# Altium footprint library TjsADLib.PcbLib: 50 footprints (part 2 of 4)
Each footprint in its own frame and in the unit in brackets; x right, y up, seen from the top. Pads: shape width x height; smd on the part's side, far side on the other; paste and mask are expansions set on the pad; w line width, h text height; cw(c..) or ccw(c..) is an arc to the next point about the centre after c.
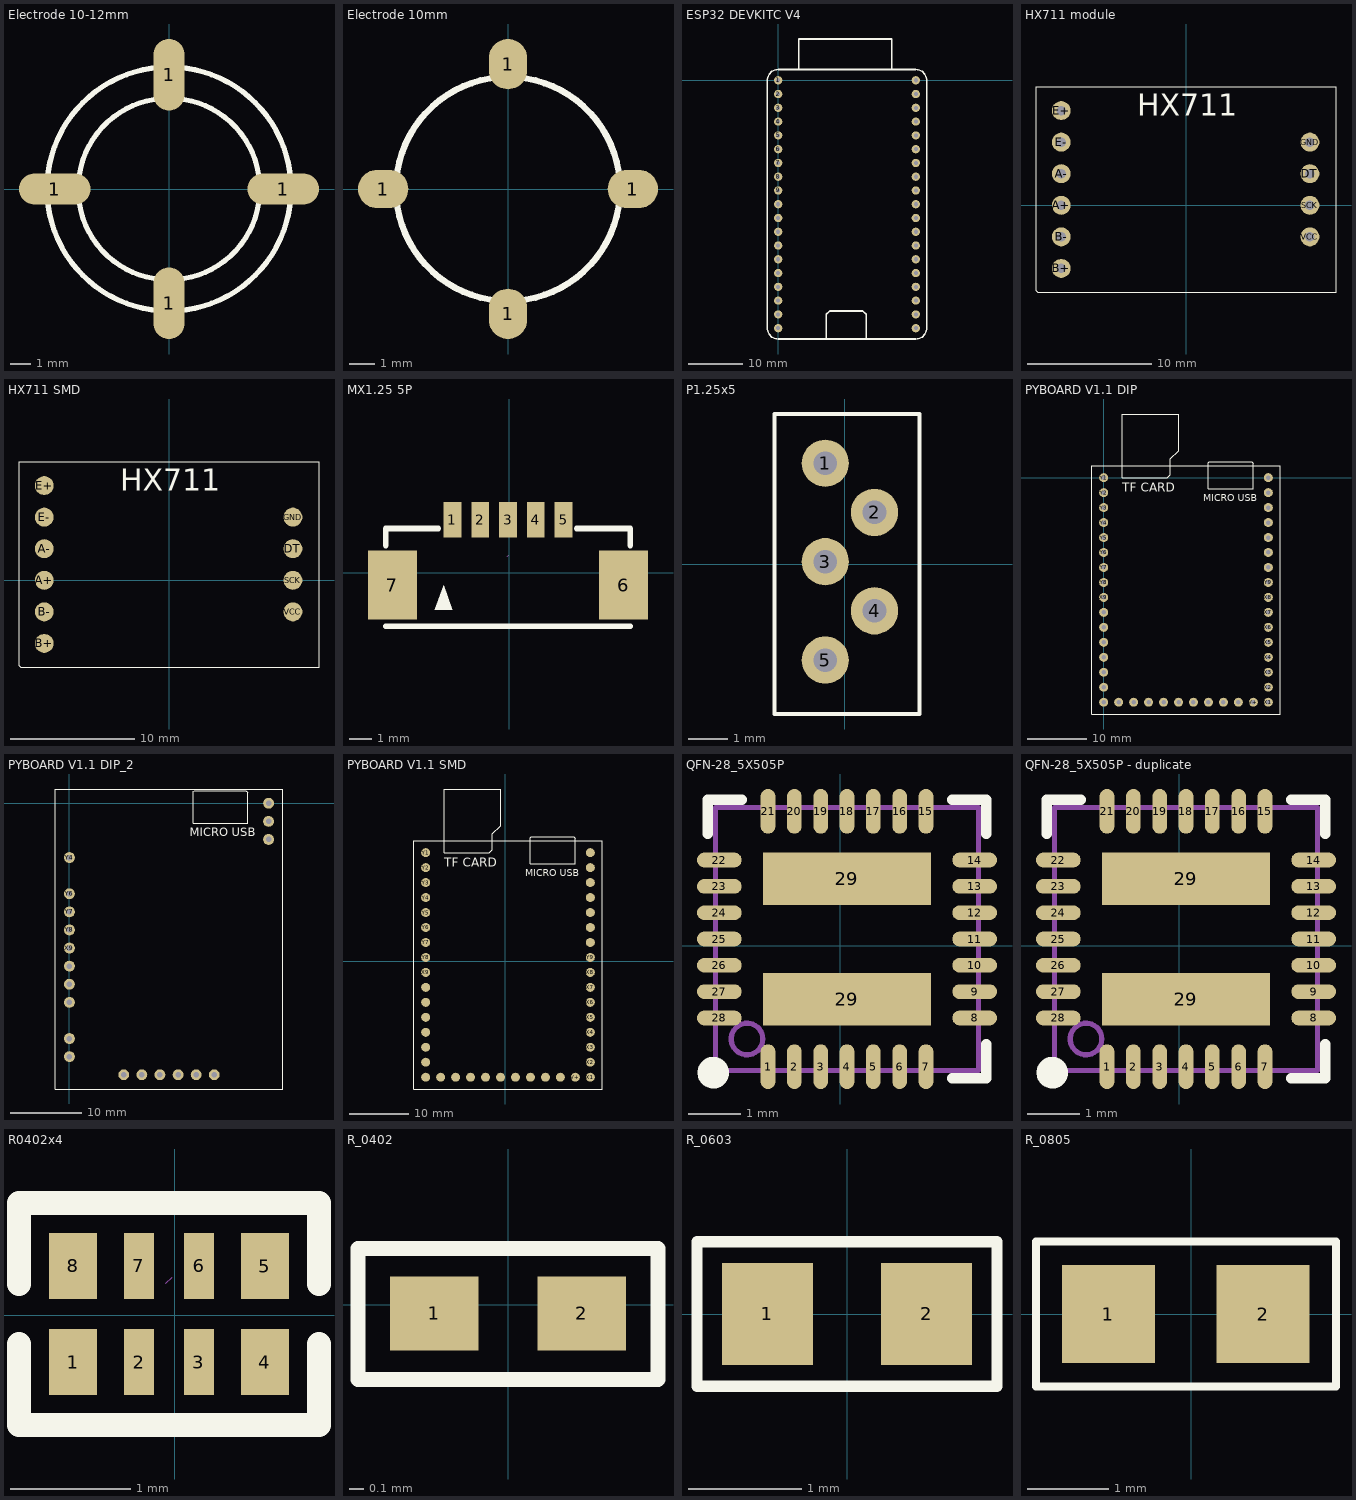
[diagram p1: the footprints below, top view; thin cyan lines are the x and y axes]

## Electrode 10-12mm [mil]
pads (4):
  oval 137.8x60 smd: 1(-220,0) 1(220,0)
  oval 60x137.8 smd: 1(0,-220) 1(0,220)
Top Overlay:
  circle w10: c0,0 r175
  circle w10: c0,0 r235

## Electrode 10mm [mil]
pads (4):
  oval 78.74x60 smd: 1(-195,0) 1(195,0)
  oval 60x78.74 smd: 1(0,-195) 1(0,195)
Top Overlay:
  circle w10: c0,0 r175

## ESP32 DEVKITC V4 [mil]
pads (38):
  round 60 hole 30: 1(0,0) 2(0,-100) 3(0,-200) 4(0,-300) 5(0,-400) 6(0,-500) 7(0,-600) 8(0,-700) 9(0,-800) 10(0,-900) 11(0,-1000) 12(0,-1100) 13(0,-1200) 14(0,-1300) 15(0,-1400) 16(0,-1500) 17(0,-1600) 18(0,-1700) 19(0,-1800) 20(1000,-1800) 21(1000,-1700) 22(1000,-1600) 23(1000,-1500) 24(1000,-1400) 25(1000,-1300) 26(1000,-1200) 27(1000,-1100) 28(1000,-1000) 29(1000,-900) 30(1000,-800) 31(1000,-700) 32(1000,-600) 33(1000,-500) 34(1000,-400) 35(1000,-300) 36(1000,-200) 37(1000,-100) 38(1000,0)
Top Overlay:
  lines w10: -78.74,-1800 ccw(c0,-1800) 0,-1878.74 ; -78.74,0 cw(c0,0) 0,78.74 ; 1000,-1878.74 ccw(c1000,-1800) 1078.74,-1800 ; 1000,78.74 cw(c1000,0) 1078.74,0
  lines w11.81: -78.74,-1800 -78.74,0 ; 0,-1878.74 1000,-1878.74 ; 0,78.74 1000,78.74 ; 150,80 150,300 825,300 825,78.74 ; 350,-1878.74 350,-1700 375,-1675 615,-1675 640,-1700 640,-1878.74 ; 1078.74,-1800 1078.74,0

## HX711 module [mil]
pads (10):
  round 60 hole 30: A+(-395,0) A-(-395,100) B+(-395,-200) B-(-395,-100) DT(392.4,100) E+(-395,300) E-(-395,200) GND(392.4,200) SCK(392.4,0) VCC(392.4,-100)
Top Overlay:
  lines w3.94: -475,-270 -475,375 475,375 475,-275 -470,-275 -475,-270
  text "HX711" at -155,260 h118.11

## HX711 SMD [mil]
pads (10):
  round 60 smd: A+(-395,0) A-(-395,100) B+(-395,-200) B-(-395,-100) DT(392.4,100) E+(-395,300) E-(-395,200) GND(392.4,200) SCK(392.4,0) VCC(392.4,-100)
Top Overlay:
  lines w3.94: -475,-270 -470,-275 475,-275 475,375 -475,375 -475,-270
  text "HX711" at -155,260 h118.11

## MX1.25 5P [mm]
pads (7):
  rect 0.8x1.6 smd: 1(-2.55,2.387) 2(-1.3,2.387) 3(-0.05,2.387) 4(1.2,2.387) 5(2.45,2.387)
  rect 2.2x3.1 smd: 6(5.15,-0.563) 7(-5.25,-0.563)
Top Overlay:
  region: -3.35,-1.663 -2.55,-1.663 -2.95,-0.563
  lines w0.254: -5.55,-2.413 5.45,-2.413 ; -5.55,1.218 -5.55,1.987 -3.181,1.987 ; 3.05,1.987 5.45,1.987 5.45,1.218
Mechanical 15:
  lines w0.003: -0.075,0.741 -0.025,0.792

## P1.25x5 [mm]
pads (5):
  round 1.2 hole 0.6: 1(-0.488,2.56) 2(0.762,1.31) 3(-0.488,0.06) 4(0.762,-1.19) 5(-0.488,-2.44)
Top Overlay:
  lines w0.1: -1.778,-3.81 1.905,-3.81 1.905,3.81 -1.778,3.81 -1.778,-3.81

## PYBOARD V1.1 DIP [mil]
pads (42):
  round 60 hole 30: 3V31(0,-1400) 3V33(1100,-100) GND1(0,-1300) GND2(900,-1500) GND3(1100,-200) RST(0,-1200) RST2(1100,-300) V+(1000,-1500) V+2(1100,0) V+/X16(0,-1500) X1(1100,-1500) X2(1100,-1400) X3(1100,-1300) X4(1100,-1200) X5(1100,-1100) X6(1100,-1000) X7(1100,-900) X8(1100,-800) X9(0,-800) X10(0,-900) X11(0,-1000) X12(0,-1100) X17(100,-1500) X18(200,-1500) X19(300,-1500) X20(400,-1500) X21(500,-1500) X22(600,-1500) X23(700,-1500) X24(800,-1500) Y1(0,0) Y2(0,-100) Y3(0,-200) Y4(0,-300) Y5(0,-400) Y6(0,-500) Y7(0,-600) Y8(0,-700) Y9(1100,-700) Y10(1100,-600) Y11(1100,-500) Y12(1100,-400)
Top Overlay:
  lines w3.94: 700,-5 700,100 705,105 990,105 1000,95 1000,-75 700,-75 700,0 ; -78.74,-1578.74 1178.74,-1578.74 1178.74,78.74 -78.74,78.74 -78.74,-1578.74 ; 125,0 425,0 445,20 445,125 500,180 500,425 125,425 125,0
  text "MICRO USB" at 665,-175 h78.74
  text "TF CARD" at 125,-115 h98.43

## PYBOARD V1.1 DIP_2 [mil]
pads (19):
  round 60 hole 30: 3V31(0,-1400) 3V33(1100,-100) GND1(0,-1300) GND3(1100,-200) V+2(1100,0) X9(0,-800) X10(0,-900) X11(0,-1000) X12(0,-1100) X19(300,-1500) X20(400,-1500) X21(500,-1500) X22(600,-1500) X23(700,-1500) X24(800,-1500) Y4(0,-300) Y6(0,-500) Y7(0,-600) Y8(0,-700)
Top Overlay:
  lines w3.94: 685,-40 685,65 690,70 975,70 985,60 985,-110 685,-110 685,-35 ; -78.74,-1578.74 1178.74,-1578.74 1178.74,78.74 -78.74,78.74 -78.74,-1578.74
  text "MICRO USB" at 665,-200 h78.74

## PYBOARD V1.1 SMD [mil]
pads (42):
  round 60 smd: 3V31(-530,-675) 3V33(570,625) GND1(-530,-575) GND2(370,-775) GND3(570,525) RST(-530,-475) RST2(570,425) V+(470,-775) V+2(570,725) V+/X16(-530,-775) X1(570,-775) X2(570,-675) X3(570,-575) X4(570,-475) X5(570,-375) X6(570,-275) X7(570,-175) X8(570,-75) X9(-530,-75) X10(-530,-175) X11(-530,-275) X12(-530,-375) X17(-430,-775) X18(-330,-775) X19(-230,-775) X20(-130,-775) X21(-30,-775) X22(70,-775) X23(170,-775) X24(270,-775) Y1(-530,725) Y2(-530,625) Y3(-530,525) Y4(-530,425) Y5(-530,325) Y6(-530,225) Y7(-530,125) Y8(-530,25) Y9(570,25) Y10(570,125) Y11(570,225) Y12(570,325)
Top Overlay:
  lines w3.94: 170,720 170,825 175,830 460,830 470,820 470,650 170,650 170,725 ; -608.74,-853.74 648.74,-853.74 648.74,803.74 -608.74,803.74 -608.74,-853.74 ; -405,725 -105,725 -85,745 -85,850 -30,905 -30,1150 -405,1150 -405,725
  text "MICRO USB" at 135,550 h78.74
  text "TF CARD" at -405,610 h98.43

## QFN-28_5X505P [mm]
pads (30):
  oval 0.28x0.85 smd mask+0.051: 1(-1.373,-2.298) 2(-0.873,-2.298) 3(-0.373,-2.298) 4(0.127,-2.298) 5(0.627,-2.298) 6(1.127,-2.298) 7(1.627,-2.298) 15(1.627,2.552) 16(1.127,2.552) 17(0.627,2.552) 18(0.127,2.552) 19(-0.373,2.552) 20(-0.873,2.552) 21(-1.373,2.552)
  oval 0.85x0.28 smd mask+0.051: 8(2.552,-1.373) 9(2.552,-0.873) 10(2.552,-0.373) 11(2.552,0.127) 12(2.552,0.627) 13(2.552,1.127) 14(2.552,1.627) 22(-2.298,1.627) 23(-2.298,1.127) 24(-2.298,0.627) 25(-2.298,0.127) 26(-2.298,-0.373) 27(-2.298,-0.873) 28(-2.298,-1.373)
  rect 3.2x1 smd: 29(0.127,-1.016) 29(0.127,1.27)
Top Overlay:
  circle w0.3: c-2.413,-2.413 r0.15
  lines w0.2: -2.523,2.127 -2.523,2.777 -1.873,2.777 ; 2.127,-2.523 2.777,-2.523 2.777,-1.873 ; 2.127,2.777 2.777,2.777 2.777,2.127
Mechanical 13:
  circle w0.1: c-1.773,-1.773 r0.3
  lines w0.1: -2.373,-2.373 -2.373,2.627 2.627,2.627 2.627,-2.373 -2.373,-2.373

## QFN-28_5X505P - duplicate [mm]
pads (30):
  oval 0.28x0.85 smd mask+0.051: 1(-1.373,-2.298) 2(-0.873,-2.298) 3(-0.373,-2.298) 4(0.127,-2.298) 5(0.627,-2.298) 6(1.127,-2.298) 7(1.627,-2.298) 15(1.627,2.552) 16(1.127,2.552) 17(0.627,2.552) 18(0.127,2.552) 19(-0.373,2.552) 20(-0.873,2.552) 21(-1.373,2.552)
  oval 0.85x0.28 smd mask+0.051: 8(2.552,-1.373) 9(2.552,-0.873) 10(2.552,-0.373) 11(2.552,0.127) 12(2.552,0.627) 13(2.552,1.127) 14(2.552,1.627) 22(-2.298,1.627) 23(-2.298,1.127) 24(-2.298,0.627) 25(-2.298,0.127) 26(-2.298,-0.373) 27(-2.298,-0.873) 28(-2.298,-1.373)
  rect 3.2x1 smd: 29(0.127,-1.016) 29(0.127,1.27)
Top Overlay:
  circle w0.3: c-2.413,-2.413 r0.15
  lines w0.2: -2.523,2.127 -2.523,2.777 -1.873,2.777 ; 2.127,-2.523 2.777,-2.523 2.777,-1.873 ; 2.127,2.777 2.777,2.777 2.777,2.127
Mechanical 13:
  circle w0.1: c-1.773,-1.773 r0.3
  lines w0.1: -2.373,-2.373 -2.373,2.627 2.627,2.627 2.627,-2.373 -2.373,-2.373

## R0402x4 [mm]
pads (8):
  rect 0.4x0.55 smd: 1(-0.847,-0.391) 4(0.753,-0.391) 5(0.753,0.409) 8(-0.847,0.409)
  rect 0.25x0.55 smd: 2(-0.297,-0.391) 3(0.203,-0.391) 6(0.203,0.409) 7(-0.297,0.409)
Top Overlay:
  lines w0.2: -1.297,-0.241 -1.297,-0.916 1.203,-0.916 1.203,-0.241 ; -1.297,0.259 -1.297,0.934 1.203,0.934 1.203,0.259
Mechanical 15:
  lines w0.003: -0.072,0.265 -0.022,0.316

## R_0402 [mm]
pads (2):
  rect 0.6x0.5 smd: 1(-0.5,-0.06) 2(0.5,-0.06)
Top Overlay:
  lines w0.1: -1.016,-0.508 -1.016,0.381 1.016,0.381 1.016,-0.508 -1.016,-0.508

## R_0603 [mm]
pads (2):
  rect 0.8x0.9 smd: 1(-0.7,0) 2(0.7,0)
Top Overlay:
  lines w0.1: -1.32,-0.635 1.32,-0.635 1.32,0.635 -1.32,0.635 -1.32,-0.635

## R_0805 [mm]
pads (2):
  rect 1.14x1.2 smd: 1(-1.016,0) 2(0.884,0)
Top Overlay:
  lines w0.1: -1.905,-0.889 1.778,-0.889 1.778,0.889 -1.905,0.889 -1.905,-0.889